# Altium footprint library Arduino_Uno_v1.PcbLib: 3 footprints
Each footprint in its own frame and in the unit in brackets; x right, y up, seen from the top. Pads: shape width x height; smd on the part's side, far side on the other; paste and mask are expansions set on the pad; w line width, h text height; cw(c..) or ccw(c..) is an arc to the next point about the centre after c.
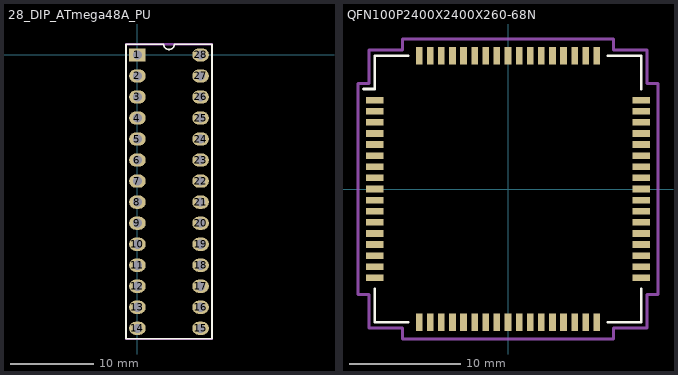
[diagram p0: the footprints below, top view; thin cyan lines are the x and y axes]

## 28_DIP_ATmega48A_PU [mm]
pads (28):
  rect 2x1.6 hole 1.1: 1(0,0)
  oval 2x1.6 hole 1.1: 2(0,-2.54) 3(0,-5.08) 4(0,-7.62) 5(0,-10.16) 6(0,-12.7) 7(0,-15.24) 8(0,-17.78) 9(0,-20.32) 10(0,-22.86) 11(0,-25.4) 12(0,-27.94) 13(0,-30.48) 14(0,-33.02) 15(7.62,-33.02) 16(7.62,-30.48) 17(7.62,-27.94) 18(7.62,-25.4) 19(7.62,-22.86) 20(7.62,-20.32) 21(7.62,-17.78) 22(7.62,-15.24) 23(7.62,-12.7) 24(7.62,-10.16) 25(7.62,-7.62) 26(7.62,-5.08) 27(7.62,-2.54) 28(7.62,0)
Top Overlay:
  lines w0.2: -1.39,1.27 -1.39,-34.29 9.01,-34.29 9.01,1.29 4.445,1.29 cw(c3.81,1.29) 3.175,1.29 -1.39,1.29
Mechanical 29:
  circle w0.5: c0.01,0.09 r0.4
  lines w0.254: -1.39,-34.31 9.01,-34.31 9.01,1.29 -1.39,1.29 -1.39,-34.31
  text ".Designator" at 5.11,-31.51 h3
3D body: height 5.04, standoff -2.08, extent -0.143,-33.535 7.763,1.115

## PCBComponent_1 [mm]

## QFN100P2400X2400X260-68N [mm]
pads (68):
  rect 1.6x0.6 smd paste-25.4 mask-25.4: 1(-12,8) 2(-12,7) 3(-12,6) 4(-12,5) 5(-12,4) 6(-12,3) 7(-12,2) 8(-12,1) 9(-12,0) 10(-12,-1) 11(-12,-2) 12(-12,-3) 13(-12,-4) 14(-12,-5) 15(-12,-6) 16(-12,-7) 17(-12,-8) 35(12,-8) 36(12,-7) 37(12,-6) 38(12,-5) 39(12,-4) 40(12,-3) 41(12,-2) 42(12,-1) 43(12,0) 44(12,1) 45(12,2) 46(12,3) 47(12,4) 48(12,5) 49(12,6) 50(12,7) 51(12,8)
  rect 0.6x1.6 smd paste-25.4 mask-25.4: 18(-8,-12) 19(-7,-12) 20(-6,-12) 21(-5,-12) 22(-4,-12) 23(-3,-12) 24(-2,-12) 25(-1,-12) 26(0,-12) 27(1,-12) 28(2,-12) 29(3,-12) 30(4,-12) 31(5,-12) 32(6,-12) 33(7,-12) 34(8,-12) 52(8,12) 53(7,12) 54(6,12) 55(5,12) 56(4,12) 57(3,12) 58(2,12) 59(1,12) 60(0,12) 61(-1,12) 62(-2,12) 63(-3,12) 64(-4,12) 65(-5,12) 66(-6,12) 67(-7,12) 68(-8,12)
Top Overlay:
  lines w0.254: -13,9 -12,9 -12,12 -9,12 ; -12,-9 -12,-12 -9,-12 ; 9,-12 12,-12 12,-9 ; 9,12 12,12 12,9
Top Paste:
  drawing of 68 lines, arcs and shapes, not listed
Top Solder:
  drawing of 68 lines, arcs and shapes, not listed
Mechanical 1:
  lines w0.254: -13.5,-9.5 -12.5,-9.5 -12.5,-12.5 -9.5,-12.5 -9.5,-13.5 9.5,-13.5 9.5,-12.5 12.5,-12.5 12.5,-9.5 13.5,-9.5 13.5,9.5 12.5,9.5 12.5,12.5 9.5,12.5 9.5,13.5 -9.5,13.5 -9.5,12.5 -12.5,12.5 -12.5,9.5 -13.5,9.5 -13.5,-9.5